# EAGLE library part C-02236_WM17117-ND (library Akizuki)
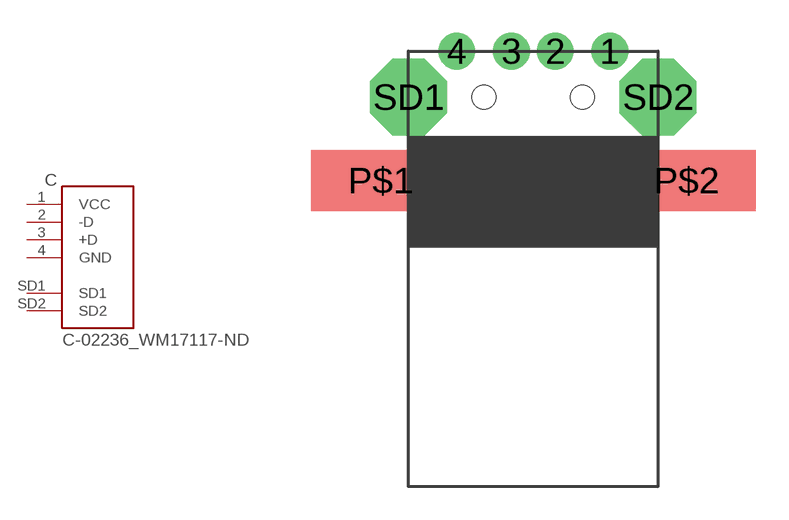
[diagram p13: symbol with the pads of WM17117-ND; footprint WM17117-ND]

Designator prefix C

## C-02236_WM17117-ND  [WM17117-ND]
1  VCC
2  -D
3  +D
4  GND
SD1  SD1
SD2  SD2

## Footprint WM17117-ND (pad centres in mm)
drill 1 pad 1.676: 1 9.2,2.1; 2 6.7,2.1; 3 4.7,2.1; 4 2.2,2.1
smd 6.35 x 2.794: P$1 -1.27,-3.81; P$2 12.7,-3.81
drill 2.5 pad 3.5 octagon: SD1 0,0; SD2 11.4,0
hole 1.1 at 3.45,0
hole 1.1 at 7.95,0